# Altium integrated library basic03_inductors.IntLib: 87 symbols
Pins are listed as number, name and electrical type; pins without a type are passive.

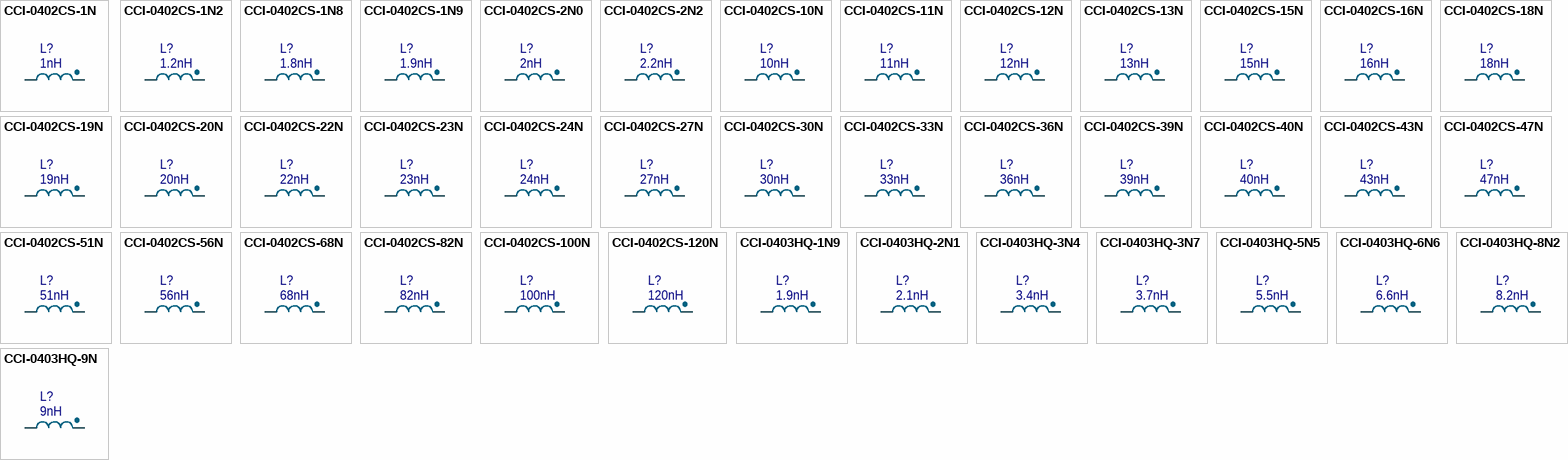
[diagram p0: symbols CCI-0402CS-1N to CCI-0403HQ-9N]

## CCI-0402CS-1N
designator L?, comment 1nH
IND, 1nH, 5%, RF, 1360mA, 0402, PbF; VendorPartNumber: 0402CS-1N0XJL; LocalPartNumber: CCI-0402CS-1N; Vendor: Coilcraft; EngineerName: Shyu Lee (Xu Li); EngineerEmail: shyu.lee@gmail.com; shyu.lee@ettus.com; Value: 1nH; Publisher: MiniLab; Version: 1.0; VersionDate: 01-10-2014
footprint 0402-CCI-CS (Coilcraft 0402CS)
simulation model IND (Ideal Inductor)
pins: 1, 2

## CCI-0402CS-1N2
designator L?, comment 1.2nH
IND, 1.2nH, 5%, RF, 754mA, 0402, PbF; VendorPartNumber: 0402CS-1N2XJL; LocalPartNumber: CCI-0402CS-1N2; Vendor: Coilcraft; EngineerName: Shyu Lee (Xu Li); EngineerEmail: shyu.lee@gmail.com; shyu.lee@ettus.com; Value: 1.2nH; Publisher: MiniLab; Version: 1.0; VersionDate: 01-10-2014
footprint 0402-CCI-CS (Coilcraft 0402CS)
simulation model IND (Ideal Inductor)
pins: 1, 2

## CCI-0402CS-1N8
designator L?, comment 1.8nH
IND, 1.8nH, 5%, RF, 1040mA, 0402, PbF; VendorPartNumber: 0402CS-1N8XJL; LocalPartNumber: CCI-0402CS-1N8; Vendor: Coilcraft; EngineerName: Shyu Lee (Xu Li); EngineerEmail: shyu.lee@gmail.com; shyu.lee@ettus.com; Value: 1.8nH; Publisher: MiniLab; Version: 1.0; VersionDate: 01-10-2014
footprint 0402-CCI-CS (Coilcraft 0402CS)
simulation model IND (Ideal Inductor)
pins: 1, 2

## CCI-0402CS-1N9
designator L?, comment 1.9nH
IND, 1.9nH, 5%, RF, 1040mA, 0402, PbF; VendorPartNumber: 0402CS-1N9XJL; LocalPartNumber: CCI-0402CS-1N9; Vendor: Coilcraft; EngineerName: Shyu Lee (Xu Li); EngineerEmail: shyu.lee@gmail.com; shyu.lee@ettus.com; Value: 1.9nH; Publisher: MiniLab; Version: 1.0; VersionDate: 01-10-2014
footprint 0402-CCI-CS (Coilcraft 0402CS)
simulation model IND (Ideal Inductor)
pins: 1, 2

## CCI-0402CS-2N0
designator L?, comment 2nH
IND, 2.0nH, 5%, RF, 1040mA, 0402, PbF; VendorPartNumber: 0402CS-2N0XJL; LocalPartNumber: CCI-0402CS-2N0; Vendor: Coilcraft; EngineerName: Shyu Lee (Xu Li); EngineerEmail: shyu.lee@gmail.com; shyu.lee@ettus.com; Value: 2nH; Publisher: MiniLab; Version: 1.0; VersionDate: 01-10-2014
footprint 0402-CCI-CS (Coilcraft 0402CS)
simulation model IND (Ideal Inductor)
pins: 1, 2

## CCI-0402CS-2N2
designator L?, comment 2.2nH
IND, 2.2nH, 5%, RF, 960mA, 0402, PbF; VendorPartNumber: 0402CS-2N2XJL; LocalPartNumber: CCI-0402CS-2N2; Vendor: Coilcraft; EngineerName: Shyu Lee (Xu Li); EngineerEmail: shyu.lee@gmail.com; shyu.lee@ettus.com; Value: 2.2nH; Publisher: MiniLab; Version: 1.0; VersionDate: 01-10-2014
footprint 0402-CCI-CS (Coilcraft 0402CS)
simulation model IND (Ideal Inductor)
pins: 1, 2

## CCI-0402CS-10N
designator L?, comment 10nH
IND, 10nH, 5%, RF, 480mA, 0402, PbF; VendorPartNumber: 0402CS-10NXJL; LocalPartNumber: CCI-0402CS-10N; Vendor: Coilcraft; EngineerName: Shyu Lee (Xu Li); EngineerEmail: shyu.lee@gmail.com; shyu.lee@ettus.com; Value: 10nH; Publisher: MiniLab; Version: 1.0; VersionDate: 01-10-2014
footprint 0402-CCI-CS (Coilcraft 0402CS)
simulation model IND (Ideal Inductor)
pins: 1, 2

## CCI-0402CS-11N
designator L?, comment 11nH
IND, 11nH, 5%, RF, 640mA, 0402, PbF; VendorPartNumber: 0402CS-11NXJL; LocalPartNumber: CCI-0402CS-11N; Vendor: Coilcraft; EngineerName: Shyu Lee (Xu Li); EngineerEmail: shyu.lee@gmail.com; shyu.lee@ettus.com; Value: 11nH; Publisher: MiniLab; Version: 1.0; VersionDate: 01-10-2014
footprint 0402-CCI-CS (Coilcraft 0402CS)
simulation model IND (Ideal Inductor)
pins: 1, 2

## CCI-0402CS-12N
designator L?, comment 12nH
IND, 12nH, 5%, RF, 640mA, 0402, PbF; VendorPartNumber: 0402CS-12NXJL; LocalPartNumber: CCI-0402CS-12N; Vendor: Coilcraft; EngineerName: Shyu Lee (Xu Li); EngineerEmail: shyu.lee@gmail.com; shyu.lee@ettus.com; Value: 12nH; Publisher: MiniLab; Version: 1.0; VersionDate: 01-10-2014
footprint 0402-CCI-CS (Coilcraft 0402CS)
simulation model IND (Ideal Inductor)
pins: 1, 2

## CCI-0402CS-13N
designator L?, comment 13nH
IND, 13nH, 5%, RF, 440mA, 0402, PbF; VendorPartNumber: 0402CS-13NXJL; LocalPartNumber: CCI-0402CS-13N; Vendor: Coilcraft; EngineerName: Shyu Lee (Xu Li); EngineerEmail: shyu.lee@gmail.com; shyu.lee@ettus.com; Value: 13nH; Publisher: MiniLab; Version: 1.0; VersionDate: 01-10-2014
footprint 0402-CCI-CS (Coilcraft 0402CS)
simulation model IND (Ideal Inductor)
pins: 1, 2

## CCI-0402CS-15N
designator L?, comment 15nH
IND, 15nH, 5%, RF, 560mA, 0402, PbF; VendorPartNumber: 0402CS-15NXJL; LocalPartNumber: CCI-0402CS-15N; Vendor: Coilcraft; EngineerName: Shyu Lee (Xu Li); EngineerEmail: shyu.lee@gmail.com; shyu.lee@ettus.com; Value: 15nH; Publisher: MiniLab; Version: 1.0; VersionDate: 01-10-2014
footprint 0402-CCI-CS (Coilcraft 0402CS)
simulation model IND (Ideal Inductor)
pins: 1, 2

## CCI-0402CS-16N
designator L?, comment 16nH
IND, 16nH, 5%, RF, 560mA, 0402, PbF; VendorPartNumber: 0402CS-16NXJL; LocalPartNumber: CCI-0402CS-16N; Vendor: Coilcraft; EngineerName: Shyu Lee (Xu Li); EngineerEmail: shyu.lee@gmail.com; shyu.lee@ettus.com; Value: 16nH; Publisher: MiniLab; Version: 1.0; VersionDate: 01-10-2014
footprint 0402-CCI-CS (Coilcraft 0402CS)
simulation model IND (Ideal Inductor)
pins: 1, 2

## CCI-0402CS-18N
designator L?, comment 18nH
IND, 18nH, 5%, RF, 420mA, 0402, PbF; VendorPartNumber: 0402CS-18NXJL; LocalPartNumber: CCI-0402CS-18N; Vendor: Coilcraft; EngineerName: Shyu Lee (Xu Li); EngineerEmail: shyu.lee@gmail.com; shyu.lee@ettus.com; Value: 18nH; Publisher: MiniLab; Version: 1.0; VersionDate: 01-10-2014
footprint 0402-CCI-CS (Coilcraft 0402CS)
simulation model IND (Ideal Inductor)
pins: 1, 2

## CCI-0402CS-19N
designator L?, comment 19nH
IND, 19nH, 5%, RF, 480mA, 0402, PbF; VendorPartNumber: 0402CS-19NXJL; LocalPartNumber: CCI-0402CS-19N; Vendor: Coilcraft; EngineerName: Shyu Lee (Xu Li); EngineerEmail: shyu.lee@gmail.com; shyu.lee@ettus.com; Value: 19nH; Publisher: MiniLab; Version: 1.0; VersionDate: 01-10-2014
footprint 0402-CCI-CS (Coilcraft 0402CS)
simulation model IND (Ideal Inductor)
pins: 1, 2

## CCI-0402CS-20N
designator L?, comment 20nH
IND, 20nH, 5%, RF, 420mA, 0402, PbF; VendorPartNumber: 0402CS-20NXJL; LocalPartNumber: CCI-0402CS-20N; Vendor: Coilcraft; EngineerName: Shyu Lee (Xu Li); EngineerEmail: shyu.lee@gmail.com; shyu.lee@ettus.com; Value: 20nH; Publisher: MiniLab; Version: 1.0; VersionDate: 01-10-2014
footprint 0402-CCI-CS (Coilcraft 0402CS)
simulation model IND (Ideal Inductor)
pins: 1, 2

## CCI-0402CS-22N
designator L?, comment 22nH
IND, 22nH, 5%, RF, 400mA, 0402, PbF; VendorPartNumber: 0402CS-22NXJL; LocalPartNumber: CCI-0402CS-22N; Vendor: Coilcraft; EngineerName: Shyu Lee (Xu Li); EngineerEmail: shyu.lee@gmail.com; shyu.lee@ettus.com; Value: 22nH; Publisher: MiniLab; Version: 1.0; VersionDate: 01-10-2014
footprint 0402-CCI-CS (Coilcraft 0402CS)
simulation model IND (Ideal Inductor)
pins: 1, 2

## CCI-0402CS-23N
designator L?, comment 23nH
IND, 23nH, 5%, RF, 400mA, 0402, PbF; VendorPartNumber: 0402CS-23NXJL; LocalPartNumber: CCI-0402CS-23N; Vendor: Coilcraft; EngineerName: Shyu Lee (Xu Li); EngineerEmail: shyu.lee@gmail.com; shyu.lee@ettus.com; Value: 23nH; Publisher: MiniLab; Version: 1.0; VersionDate: 01-10-2014
footprint 0402-CCI-CS (Coilcraft 0402CS)
simulation model IND (Ideal Inductor)
pins: 1, 2

## CCI-0402CS-24N
designator L?, comment 24nH
IND, 24nH, 5%, RF, 400mA, 0402, PbF; VendorPartNumber: 0402CS-24NXJL; LocalPartNumber: CCI-0402CS-24N; Vendor: Coilcraft; EngineerName: Shyu Lee (Xu Li); EngineerEmail: shyu.lee@gmail.com; shyu.lee@ettus.com; Value: 24nH; Publisher: MiniLab; Version: 1.0; VersionDate: 01-10-2014
footprint 0402-CCI-CS (Coilcraft 0402CS)
simulation model IND (Ideal Inductor)
pins: 1, 2

## CCI-0402CS-27N
designator L?, comment 27nH
IND, 27nH, 5%, RF, 400mA, 0402, PbF; VendorPartNumber: 0402CS-27NXJL; LocalPartNumber: CCI-0402CS-27N; Vendor: Coilcraft; EngineerName: Shyu Lee (Xu Li); EngineerEmail: shyu.lee@gmail.com; shyu.lee@ettus.com; Value: 27nH; Publisher: MiniLab; Version: 1.0; VersionDate: 01-10-2014
footprint 0402-CCI-CS (Coilcraft 0402CS)
simulation model IND (Ideal Inductor)
pins: 1, 2

## CCI-0402CS-30N
designator L?, comment 30nH
IND, 30nH, 5%, RF, 400mA, 0402, PbF; VendorPartNumber: 0402CS-30NXJL; LocalPartNumber: CCI-0402CS-30N; Vendor: Coilcraft; EngineerName: Shyu Lee (Xu Li); EngineerEmail: shyu.lee@gmail.com; shyu.lee@ettus.com; Value: 30nH; Publisher: MiniLab; Version: 1.0; VersionDate: 01-10-2014
footprint 0402-CCI-CS (Coilcraft 0402CS)
simulation model IND (Ideal Inductor)
pins: 1, 2

## CCI-0402CS-33N
designator L?, comment 33nH
IND, 33nH, 5%, RF, 400mA, 0402, PbF; VendorPartNumber: 0402CS-33NXJL; LocalPartNumber: CCI-0402CS-33N; Vendor: Coilcraft; EngineerName: Shyu Lee (Xu Li); EngineerEmail: shyu.lee@gmail.com; shyu.lee@ettus.com; Value: 33nH; Publisher: MiniLab; Version: 1.0; VersionDate: 01-10-2014
footprint 0402-CCI-CS (Coilcraft 0402CS)
simulation model IND (Ideal Inductor)
pins: 1, 2

## CCI-0402CS-36N
designator L?, comment 36nH
IND, 36nH, 5%, RF, 320mA, 0402, PbF; VendorPartNumber: 0402CS-36NXJL; LocalPartNumber: CCI-0402CS-36N; Vendor: Coilcraft; EngineerName: Shyu Lee (Xu Li); EngineerEmail: shyu.lee@gmail.com; shyu.lee@ettus.com; Value: 36nH; Publisher: MiniLab; Version: 1.0; VersionDate: 01-10-2014
footprint 0402-CCI-CS (Coilcraft 0402CS)
simulation model IND (Ideal Inductor)
pins: 1, 2

## CCI-0402CS-39N
designator L?, comment 39nH
IND, 39nH, 5%, RF, 200mA, 0402, PbF; VendorPartNumber: 0402CS-39NXJL; LocalPartNumber: CCI-0402CS-39N; Vendor: Coilcraft; EngineerName: Shyu Lee (Xu Li); EngineerEmail: shyu.lee@gmail.com; shyu.lee@ettus.com; Value: 39nH; Publisher: MiniLab; Version: 1.0; VersionDate: 01-10-2014
footprint 0402-CCI-CS (Coilcraft 0402CS)
simulation model IND (Ideal Inductor)
pins: 1, 2

## CCI-0402CS-40N
designator L?, comment 40nH
IND, 40nH, 5%, RF, 320mA, 0402, PbF; VendorPartNumber: 0402CS-40NXJL; LocalPartNumber: CCI-0402CS-40N; Vendor: Coilcraft; EngineerName: Shyu Lee (Xu Li); EngineerEmail: shyu.lee@gmail.com; shyu.lee@ettus.com; Value: 40nH; Publisher: MiniLab; Version: 1.0; VersionDate: 01-10-2014
footprint 0402-CCI-CS (Coilcraft 0402CS)
simulation model IND (Ideal Inductor)
pins: 1, 2

## CCI-0402CS-43N
designator L?, comment 43nH
IND, 43nH, 5%, RF, 100mA, 0402, PbF; VendorPartNumber: 0402CS-43NXJL; LocalPartNumber: CCI-0402CS-43N; Vendor: Coilcraft; EngineerName: Shyu Lee (Xu Li); EngineerEmail: shyu.lee@gmail.com; shyu.lee@ettus.com; Value: 43nH; Publisher: MiniLab; Version: 1.0; VersionDate: 01-10-2014
footprint 0402-CCI-CS (Coilcraft 0402CS)
simulation model IND (Ideal Inductor)
pins: 1, 2

## CCI-0402CS-47N
designator L?, comment 47nH
IND, 47nH, 5%, RF, 150mA, 0402, PbF; VendorPartNumber: 0402CS-47NXJL; LocalPartNumber: CCI-0402CS-47N; Vendor: Coilcraft; EngineerName: Shyu Lee (Xu Li); EngineerEmail: shyu.lee@gmail.com; shyu.lee@ettus.com; Value: 47nH; Publisher: MiniLab; Version: 1.0; VersionDate: 01-10-2014
footprint 0402-CCI-CS (Coilcraft 0402CS)
simulation model IND (Ideal Inductor)
pins: 1, 2

## CCI-0402CS-51N
designator L?, comment 51nH
IND, 51nH, 5%, RF, 100mA, 0402, PbF; VendorPartNumber: 0402CS-51NXJL; LocalPartNumber: CCI-0402CS-51N; Vendor: Coilcraft; EngineerName: Shyu Lee (Xu Li); EngineerEmail: shyu.lee@gmail.com; shyu.lee@ettus.com; Value: 51nH; Publisher: MiniLab; Version: 1.0; VersionDate: 01-10-2014
footprint 0402-CCI-CS (Coilcraft 0402CS)
simulation model IND (Ideal Inductor)
pins: 1, 2

## CCI-0402CS-56N
designator L?, comment 56nH
IND, 56nH, 5%, RF, 100mA, 0402, PbF; VendorPartNumber: 0402CS-56NXJL; LocalPartNumber: CCI-0402CS-56N; Vendor: Coilcraft; EngineerName: Shyu Lee (Xu Li); EngineerEmail: shyu.lee@gmail.com; shyu.lee@ettus.com; Value: 56nH; Publisher: MiniLab; Version: 1.0; VersionDate: 01-10-2014
footprint 0402-CCI-CS (Coilcraft 0402CS)
simulation model IND (Ideal Inductor)
pins: 1, 2

## CCI-0402CS-68N
designator L?, comment 68nH
IND, 68nH, 5%, RF, 100mA, 0402, PbF; VendorPartNumber: 0402CS-68NXJL; LocalPartNumber: CCI-0402CS-68N; Vendor: Coilcraft; EngineerName: Shyu Lee (Xu Li); EngineerEmail: shyu.lee@gmail.com; shyu.lee@ettus.com; Value: 68nH; Publisher: MiniLab; Version: 1.0; VersionDate: 01-10-2014
footprint 0402-CCI-CS (Coilcraft 0402CS)
simulation model IND (Ideal Inductor)
pins: 1, 2

## CCI-0402CS-82N
designator L?, comment 82nH
IND, 82nH, 5%, RF, 50mA, 0402, PbF; VendorPartNumber: 0402CS-82NXJL; LocalPartNumber: CCI-0402CS-82N; Vendor: Coilcraft; EngineerName: Shyu Lee (Xu Li); EngineerEmail: shyu.lee@gmail.com; shyu.lee@ettus.com; Value: 82nH; Publisher: MiniLab; Version: 1.0; VersionDate: 01-10-2014
footprint 0402-CCI-CS (Coilcraft 0402CS)
simulation model IND (Ideal Inductor)
pins: 1, 2

## CCI-0402CS-100N
designator L?, comment 100nH
IND, 100nH, 5%, RF, 30mA, 0402, PbF; VendorPartNumber: 0402CS-R10XJL; LocalPartNumber: CCI-0402CS-100N; Vendor: Coilcraft; EngineerName: Shyu Lee (Xu Li); EngineerEmail: shyu.lee@gmail.com; shyu.lee@ettus.com; Value: 100nH; Publisher: MiniLab; Version: 1.0; VersionDate: 01-10-2014
footprint 0402-CCI-CS (Coilcraft 0402CS)
simulation model IND (Ideal Inductor)
pins: 1, 2

## CCI-0402CS-120N
designator L?, comment 120nH
IND, 120nH, 5%, RF, 50mA, 0402, PbF; VendorPartNumber: 0402CS-R12XJL; LocalPartNumber: CCI-0402CS-120N; Vendor: Coilcraft; EngineerName: Shyu Lee (Xu Li); EngineerEmail: shyu.lee@gmail.com; shyu.lee@ettus.com; Value: 120nH; Publisher: MiniLab; Version: 1.0; VersionDate: 01-10-2014
footprint 0402-CCI-CS (Coilcraft 0402CS)
simulation model IND (Ideal Inductor)
pins: 1, 2

## CCI-0403HQ-1N9
designator L?, comment 1.9nH
IND, 1.9nH, 5%, RF HiQ, 2200mA, 0403, PbF; VendorPartNumber: 0403HQ-1N9XJL; LocalPartNumber: CCI-0403HQ-1N9; Vendor: Coilcraft; EngineerName: Shyu Lee (Xu Li); EngineerEmail: shyu.lee@gmail.com; shyu.lee@ettus.com; Value: 1.9nH; Publisher: MiniLab; Version: 1.0; VersionDate: 01-10-2014
footprint 0403-CCI-HQ (Coilcraft 0403HQ)
simulation model IND (Ideal Inductor)
pins: 1, 2

## CCI-0403HQ-2N1
designator L?, comment 2.1nH
IND, 2.1nH, 5%, RF HiQ, 1800mA, 0403, PbF; VendorPartNumber: 0403HQ-2N1XJL; LocalPartNumber: CCI-0403HQ-2N1; Vendor: Coilcraft; EngineerName: Shyu Lee (Xu Li); EngineerEmail: shyu.lee@gmail.com; shyu.lee@ettus.com; Value: 2.1nH; Publisher: MiniLab; Version: 1.0; VersionDate: 01-10-2014
footprint 0403-CCI-HQ (Coilcraft 0403HQ)
simulation model IND (Ideal Inductor)
pins: 1, 2

## CCI-0403HQ-3N4
designator L?, comment 3.4nH
IND, 3.4nH, 5%, RF HiQ, 1900mA, 0403, PbF; VendorPartNumber: 0403HQ-3N4XJL; LocalPartNumber: CCI-0403HQ-3N4; Vendor: Coilcraft; EngineerName: Shyu Lee (Xu Li); EngineerEmail: shyu.lee@gmail.com; shyu.lee@ettus.com; Value: 3.4nH; Publisher: MiniLab; Version: 1.0; VersionDate: 01-10-2014
footprint 0403-CCI-HQ (Coilcraft 0403HQ)
simulation model IND (Ideal Inductor)
pins: 1, 2

## CCI-0403HQ-3N7
designator L?, comment 3.7nH
IND, 3.7nH, 5%, RF HiQ, 1800mA, 0403, PbF; VendorPartNumber: 0403HQ-3N7XJL; LocalPartNumber: CCI-0403HQ-3N7; Vendor: Coilcraft; EngineerName: Shyu Lee (Xu Li); EngineerEmail: shyu.lee@gmail.com; shyu.lee@ettus.com; Value: 3.7nH; Publisher: MiniLab; Version: 1.0; VersionDate: 01-10-2014
footprint 0403-CCI-HQ (Coilcraft 0403HQ)
simulation model IND (Ideal Inductor)
pins: 1, 2

## CCI-0403HQ-5N5
designator L?, comment 5.5nH
IND, 5.5nH, 5%, RF HiQ, 1500mA, 0403, PbF; VendorPartNumber: 0403HQ-5N5XJL; LocalPartNumber: CCI-0403HQ-5N5; Vendor: Coilcraft; EngineerName: Shyu Lee (Xu Li); EngineerEmail: shyu.lee@gmail.com; shyu.lee@ettus.com; Value: 5.5nH; Publisher: MiniLab; Version: 1.0; VersionDate: 01-10-2014
footprint 0403-CCI-HQ (Coilcraft 0403HQ)
simulation model IND (Ideal Inductor)
pins: 1, 2

## CCI-0403HQ-6N6
designator L?, comment 6.6nH
IND, 6.6nH, 5%, RF HiQ, 1100mA, 0403, PbF; VendorPartNumber: 0403HQ-6N6XJL; LocalPartNumber: CCI-0403HQ-6N6; Vendor: Coilcraft; EngineerName: Shyu Lee (Xu Li); EngineerEmail: shyu.lee@gmail.com; shyu.lee@ettus.com; Value: 6.6nH; Publisher: MiniLab; Version: 1.0; VersionDate: 01-10-2014
footprint 0403-CCI-HQ (Coilcraft 0403HQ)
simulation model IND (Ideal Inductor)
pins: 1, 2

## CCI-0403HQ-8N2
designator L?, comment 8.2nH
IND, 8.2nH, 5%, RF HiQ, 1200mA, 0403, PbF; VendorPartNumber: 0403HQ-8N2XJL; LocalPartNumber: CCI-0403HQ-8N2; Vendor: Coilcraft; EngineerName: Shyu Lee (Xu Li); EngineerEmail: shyu.lee@gmail.com; shyu.lee@ettus.com; Value: 8.2nH; Publisher: MiniLab; Version: 1.0; VersionDate: 01-10-2014
footprint 0403-CCI-HQ (Coilcraft 0403HQ)
simulation model IND (Ideal Inductor)
pins: 1, 2

## CCI-0403HQ-9N
designator L?, comment 9nH
IND, 9nH, 5%, RF HiQ, 1000mA, 0403, PbF; VendorPartNumber: 0403HQ-9N0XJL; LocalPartNumber: CCI-0403HQ-9N; Vendor: Coilcraft; EngineerName: Shyu Lee (Xu Li); EngineerEmail: shyu.lee@gmail.com; shyu.lee@ettus.com; Value: 9nH; Publisher: MiniLab; Version: 1.0; VersionDate: 01-10-2014
footprint 0403-CCI-HQ (Coilcraft 0403HQ)
simulation model IND (Ideal Inductor)
pins: 1, 2

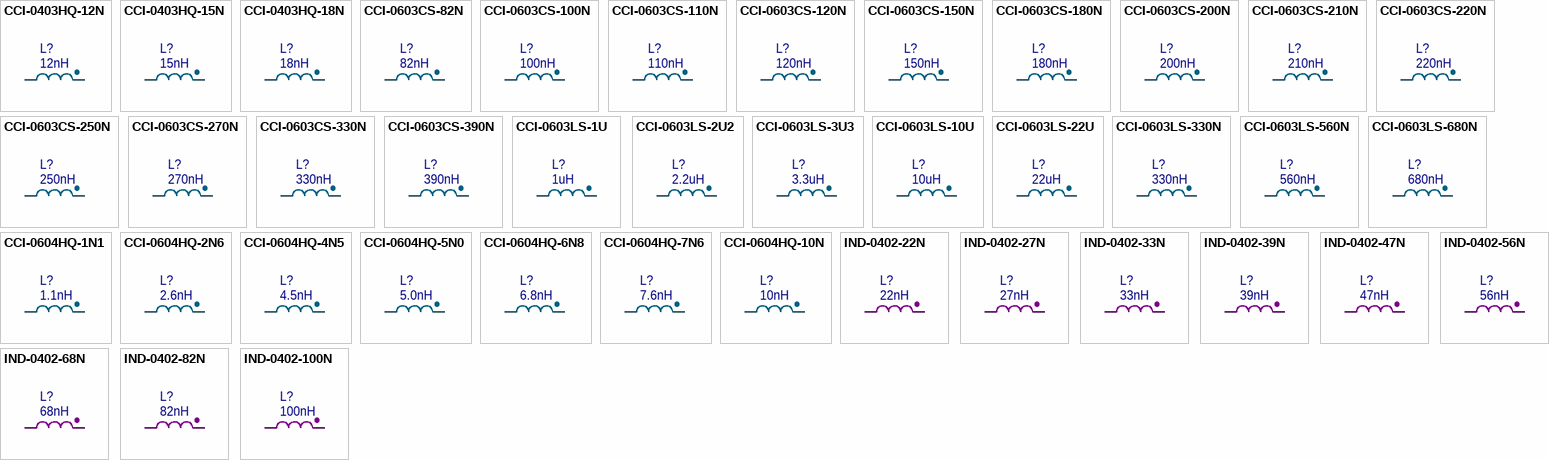
[diagram p1: symbols CCI-0403HQ-12N to IND-0402-100N]

## CCI-0403HQ-12N
designator L?, comment 12nH
IND, 12nH, 5%, RF HiQ, 800mA, 0403, PbF; VendorPartNumber: 0403HQ-12NXJL; LocalPartNumber: CCI-0403HQ-12N; Vendor: Coilcraft; EngineerName: Shyu Lee (Xu Li); EngineerEmail: shyu.lee@gmail.com; shyu.lee@ettus.com; Value: 12nH; Publisher: MiniLab; Version: 1.0; VersionDate: 01-10-2014
footprint 0403-CCI-HQ (Coilcraft 0403HQ)
simulation model IND (Ideal Inductor)
pins: 1, 2

## CCI-0403HQ-15N
designator L?, comment 15nH
IND, 15nH, 5%, RF HiQ, 500mA, 0403, PbF; VendorPartNumber: 0403HQ-15NXJL; LocalPartNumber: CCI-0403HQ-15N; Vendor: Coilcraft; EngineerName: Shyu Lee (Xu Li); EngineerEmail: shyu.lee@gmail.com; shyu.lee@ettus.com; Value: 15nH; Publisher: MiniLab; Version: 1.0; VersionDate: 01-10-2014
footprint 0403-CCI-HQ (Coilcraft 0403HQ)
simulation model IND (Ideal Inductor)
pins: 1, 2

## CCI-0403HQ-18N
designator L?, comment 18nH
IND, 18nH, 5%, RF HiQ, 500mA, 0403, PbF; VendorPartNumber: 0403HQ-18NXJL; LocalPartNumber: CCI-0403HQ-18N; Vendor: Coilcraft; EngineerName: Shyu Lee (Xu Li); EngineerEmail: shyu.lee@gmail.com; shyu.lee@ettus.com; Value: 18nH; Publisher: MiniLab; Version: 1.0; VersionDate: 01-10-2014
footprint 0403-CCI-HQ (Coilcraft 0403HQ)
simulation model IND (Ideal Inductor)
pins: 1, 2

## CCI-0603CS-82N
designator L?, comment 82nH
IND, 82nH, 5%, RF, 400mA, 0603, PbF; VendorPartNumber: 0603CS-82NXJL; LocalPartNumber: CCI-0603CS-82N; Vendor: Coilcraft; EngineerName: Shyu Lee (Xu Li); EngineerEmail: shyu.lee@gmail.com; shyu.lee@ettus.com; Value: 82nH; Publisher: MiniLab; Version: 1.0; VersionDate: 01-10-2014
footprint 0603-CCI-CS (Coilcraft 0603CS)
simulation model IND (Ideal Inductor)
pins: 1, 2

## CCI-0603CS-100N
designator L?, comment 100nH
IND, 100nH, 5%, RF, 400mA, 0603, PbF; VendorPartNumber: 0603CS-R10XJL; LocalPartNumber: CCI-0603CS-100N; Vendor: Coilcraft; EngineerName: Shyu Lee (Xu Li); EngineerEmail: shyu.lee@gmail.com; shyu.lee@ettus.com; Value: 100nH; Publisher: MiniLab; Version: 1.0; VersionDate: 01-10-2014
footprint 0603-CCI-CS (Coilcraft 0603CS)
simulation model IND (Ideal Inductor)
pins: 1, 2

## CCI-0603CS-110N
designator L?, comment 110nH
IND, 110nH, 5%, RF, 300mA, 0603, PbF; VendorPartNumber: 0603CS-R11XJL; LocalPartNumber: CCI-0603CS-110N; Vendor: Coilcraft; EngineerName: Shyu Lee (Xu Li); EngineerEmail: shyu.lee@gmail.com; shyu.lee@ettus.com; Value: 110nH; Publisher: MiniLab; Version: 1.0; VersionDate: 01-10-2014
footprint 0603-CCI-CS (Coilcraft 0603CS)
simulation model IND (Ideal Inductor)
pins: 1, 2

## CCI-0603CS-120N
designator L?, comment 120nH
IND, 120nH, 5%, RF, 300mA, 0603, PbF; VendorPartNumber: 0603CS-R12XJL; LocalPartNumber: CCI-0603CS-120N; Vendor: Coilcraft; EngineerName: Shyu Lee (Xu Li); EngineerEmail: shyu.lee@gmail.com; shyu.lee@ettus.com; Value: 120nH; Publisher: MiniLab; Version: 1.0; VersionDate: 01-10-2014
footprint 0603-CCI-CS (Coilcraft 0603CS)
simulation model IND (Ideal Inductor)
pins: 1, 2

## CCI-0603CS-150N
designator L?, comment 150nH
IND, 150nH, 5%, RF, 280mA, 0603, PbF; VendorPartNumber: 0603CS-R15XJL; LocalPartNumber: CCI-0603CS-150N; Vendor: Coilcraft; EngineerName: Shyu Lee (Xu Li); EngineerEmail: shyu.lee@gmail.com; shyu.lee@ettus.com; Value: 150nH; Publisher: MiniLab; Version: 1.0; VersionDate: 01-10-2014
footprint 0603-CCI-CS (Coilcraft 0603CS)
simulation model IND (Ideal Inductor)
pins: 1, 2

## CCI-0603CS-180N
designator L?, comment 180nH
IND, 180nH, 5%, RF, 240mA, 0603, PbF; VendorPartNumber: 0603CS-R18XJL; LocalPartNumber: CCI-0603CS-180N; Vendor: Coilcraft; EngineerName: Shyu Lee (Xu Li); EngineerEmail: shyu.lee@gmail.com; shyu.lee@ettus.com; Value: 180nH; Publisher: MiniLab; Version: 1.0; VersionDate: 01-10-2014
footprint 0603-CCI-CS (Coilcraft 0603CS)
simulation model IND (Ideal Inductor)
pins: 1, 2

## CCI-0603CS-200N
designator L?, comment 200nH
IND, 200nH, 5%, RF, 200mA, 0603, PbF; VendorPartNumber: 0603CS-R20XJL; LocalPartNumber: CCI-0603CS-200N; Vendor: Coilcraft; EngineerName: Shyu Lee (Xu Li); EngineerEmail: shyu.lee@gmail.com; shyu.lee@ettus.com; Value: 200nH; Publisher: MiniLab; Version: 1.0; VersionDate: 01-10-2014
footprint 0603-CCI-CS (Coilcraft 0603CS)
simulation model IND (Ideal Inductor)
pins: 1, 2

## CCI-0603CS-210N
designator L?, comment 210nH
IND, 210nH, 5%, RF, 200mA, 0603, PbF; VendorPartNumber: 0603CS-R21XJL; LocalPartNumber: CCI-0603CS-210N; Vendor: Coilcraft; EngineerName: Shyu Lee (Xu Li); EngineerEmail: shyu.lee@gmail.com; shyu.lee@ettus.com; Value: 210nH; Publisher: MiniLab; Version: 1.0; VersionDate: 01-10-2014
footprint 0603-CCI-CS (Coilcraft 0603CS)
simulation model IND (Ideal Inductor)
pins: 1, 2

## CCI-0603CS-220N
designator L?, comment 220nH
IND, 220nH, 5%, RF, 200mA, 0603, PbF; VendorPartNumber: 0603CS-R22XJL; LocalPartNumber: CCI-0603CS-220N; Vendor: Coilcraft; EngineerName: Shyu Lee (Xu Li); EngineerEmail: shyu.lee@gmail.com; shyu.lee@ettus.com; Value: 220nH; Publisher: MiniLab; Version: 1.0; VersionDate: 01-10-2014
footprint 0603-CCI-CS (Coilcraft 0603CS)
simulation model IND (Ideal Inductor)
pins: 1, 2

## CCI-0603CS-250N
designator L?, comment 250nH
IND, 250nH, 5%, RF, 120mA, 0603, PbF; VendorPartNumber: 0603CS-R25XJL; LocalPartNumber: CCI-0603CS-250N; Vendor: Coilcraft; EngineerName: Shyu Lee (Xu Li); EngineerEmail: shyu.lee@gmail.com; shyu.lee@ettus.com; Value: 250nH; Publisher: MiniLab; Version: 1.0; VersionDate: 01-10-2014
footprint 0603-CCI-CS (Coilcraft 0603CS)
simulation model IND (Ideal Inductor)
pins: 1, 2

## CCI-0603CS-270N
designator L?, comment 270nH
IND, 270nH, 5%, RF, 170mA, 0603, PbF; VendorPartNumber: 0603CS-R27XJL; LocalPartNumber: CCI-0603CS-270N; Vendor: Coilcraft; EngineerName: Shyu Lee (Xu Li); EngineerEmail: shyu.lee@gmail.com; shyu.lee@ettus.com; Value: 270nH; Publisher: MiniLab; Version: 1.0; VersionDate: 01-10-2014
footprint 0603-CCI-CS (Coilcraft 0603CS)
simulation model IND (Ideal Inductor)
pins: 1, 2

## CCI-0603CS-330N
designator L?, comment 330nH
IND, 330nH, 5%, RF, 100mA, 0603, PbF; VendorPartNumber: 0603CS-R33XJL; LocalPartNumber: CCI-0603CS-330N; Vendor: Coilcraft; EngineerName: Shyu Lee (Xu Li); EngineerEmail: shyu.lee@gmail.com; shyu.lee@ettus.com; Value: 330nH; Publisher: MiniLab; Version: 1.0; VersionDate: 01-10-2014
footprint 0603-CCI-CS (Coilcraft 0603CS)
simulation model IND (Ideal Inductor)
pins: 1, 2

## CCI-0603CS-390N
designator L?, comment 390nH
IND, 390nH, 5%, RF, 100mA, 0603, PbF; VendorPartNumber: 0603CS-R39XJL; LocalPartNumber: CCI-0603CS-390N; Vendor: Coilcraft; EngineerName: Shyu Lee (Xu Li); EngineerEmail: shyu.lee@gmail.com; shyu.lee@ettus.com; Value: 390nH; Publisher: MiniLab; Version: 1.0; VersionDate: 01-10-2014
footprint 0603-CCI-CS (Coilcraft 0603CS)
simulation model IND (Ideal Inductor)
pins: 1, 2

## CCI-0603LS-1U
designator L?, comment 1uH
IND, 1uH, 5%, RF Core, 400mA, 0603, PbF; VendorPartNumber: 0603LS-102XJL; LocalPartNumber: CCI-0603LS-1U; Vendor: Coilcraft; EngineerName: Shyu Lee (Xu Li); EngineerEmail: shyu.lee@gmail.com; shyu.lee@ettus.com; Value: 1uH; Publisher: MiniLab; Version: 1.0; VersionDate: 01-10-2014
footprint 0603-CCI-LS (Coilcraft 0603LS)
simulation model IND (Ideal Inductor)
pins: 1, 2

## CCI-0603LS-2U2
designator L?, comment 2.2uH
IND, 2.2uH, 5%, RF Core, 320mA, 0603, PbF; VendorPartNumber: 0603LS-222XJL; LocalPartNumber: CCI-0603LS-2U2; Vendor: Coilcraft; EngineerName: Shyu Lee (Xu Li); EngineerEmail: shyu.lee@gmail.com; shyu.lee@ettus.com; Value: 2.2uH; Publisher: MiniLab; Version: 1.0; VersionDate: 01-10-2014
footprint 0603-CCI-LS (Coilcraft 0603LS)
simulation model IND (Ideal Inductor)
pins: 1, 2

## CCI-0603LS-3U3
designator L?, comment 3.3uH
IND, 3.3uH, 5%, RF Core, 280mA, 0603, PbF; VendorPartNumber: 0603LS-332XJL; LocalPartNumber: CCI-0603LS-3U3; Vendor: Coilcraft; EngineerName: Shyu Lee (Xu Li); EngineerEmail: shyu.lee@gmail.com; shyu.lee@ettus.com; Value: 3.3uH; Publisher: MiniLab; Version: 1.0; VersionDate: 01-10-2014
footprint 0603-CCI-LS (Coilcraft 0603LS)
simulation model IND (Ideal Inductor)
pins: 1, 2

## CCI-0603LS-10U
designator L?, comment 10uH
IND, 10uH, 5%, RF Core, 180mA, 0603, PbF; VendorPartNumber: 0603LS-103XJL; LocalPartNumber: CCI-0603LS-10U; Vendor: Coilcraft; EngineerName: Shyu Lee (Xu Li); EngineerEmail: shyu.lee@gmail.com; shyu.lee@ettus.com; Value: 10uH; Publisher: MiniLab; Version: 1.0; VersionDate: 01-10-2014
footprint 0603-CCI-LS (Coilcraft 0603LS)
simulation model IND (Ideal Inductor)
pins: 1, 2

## CCI-0603LS-22U
designator L?, comment 22uH
IND, 22uH, 5%, RF Core, 130mA, 0603, PbF; VendorPartNumber: 0603LS-223XJL; LocalPartNumber: CCI-0603LS-22U; Vendor: Coilcraft; EngineerName: Shyu Lee (Xu Li); EngineerEmail: shyu.lee@gmail.com; shyu.lee@ettus.com; Value: 22uH; Publisher: MiniLab; Version: 1.0; VersionDate: 01-10-2014
footprint 0603-CCI-LS (Coilcraft 0603LS)
simulation model IND (Ideal Inductor)
pins: 1, 2

## CCI-0603LS-330N
designator L?, comment 330nH
IND, 330nH, 5%, RF Core, 560mA, 0603, PbF; VendorPartNumber: 0603LS-331XJL; LocalPartNumber: CCI-0603LS-330N; Vendor: Coilcraft; EngineerName: Shyu Lee (Xu Li); EngineerEmail: shyu.lee@gmail.com; shyu.lee@ettus.com; Value: 330nH; Publisher: MiniLab; Version: 1.0; VersionDate: 01-10-2014
footprint 0603-CCI-LS (Coilcraft 0603LS)
simulation model IND (Ideal Inductor)
pins: 1, 2

## CCI-0603LS-560N
designator L?, comment 560nH
IND, 560nH, 5%, RF Core, 550mA, 0603, PbF; VendorPartNumber: 0603LS-561XJL; LocalPartNumber: CCI-0603LS-560N; Vendor: Coilcraft; EngineerName: Shyu Lee (Xu Li); EngineerEmail: shyu.lee@gmail.com; shyu.lee@ettus.com; Value: 560nH; Publisher: MiniLab; Version: 1.0; VersionDate: 01-10-2014
footprint 0603-CCI-LS (Coilcraft 0603LS)
simulation model IND (Ideal Inductor)
pins: 1, 2

## CCI-0603LS-680N
designator L?, comment 680nH
IND, 680nH, 5%, RF Core, 470mA, 0603, PbF; VendorPartNumber: 0603LS-681XJL; LocalPartNumber: CCI-0603LS-680N; Vendor: Coilcraft; EngineerName: Shyu Lee (Xu Li); EngineerEmail: shyu.lee@gmail.com; shyu.lee@ettus.com; Value: 680nH; Publisher: MiniLab; Version: 1.0; VersionDate: 01-10-2014
footprint 0603-CCI-LS (Coilcraft 0603LS)
simulation model IND (Ideal Inductor)
pins: 1, 2

## CCI-0604HQ-1N1
designator L?, comment 1.1nH
IND, 1.1nH, 5%, RF HiQ, 3000mA, 0604, PbF; VendorPartNumber: 0604HQ-1N1XJL; LocalPartNumber: CCI-0604HQ-1N1; Vendor: Coilcraft; EngineerName: Shyu Lee (Xu Li); EngineerEmail: shyu.lee@gmail.com; shyu.lee@ettus.com; Value: 1.1nH; Publisher: MiniLab; Version: 1.0; VersionDate: 01-10-2014
footprint 0604-CCI-HQ (Coilcraft 0604HQ)
simulation model IND (Ideal Inductor)
pins: 1, 2

## CCI-0604HQ-2N6
designator L?, comment 2.6nH
IND, 2.6nH, 5%, RF HiQ, 2000mA, 0604, PbF; VendorPartNumber: 0604HQ-2N6XJL; LocalPartNumber: CCI-0604HQ-2N6; Vendor: Coilcraft; EngineerName: Shyu Lee (Xu Li); EngineerEmail: shyu.lee@gmail.com; shyu.lee@ettus.com; Value: 2.6nH; Publisher: MiniLab; Version: 1.0; VersionDate: 01-10-2014
footprint 0604-CCI-HQ (Coilcraft 0604HQ)
simulation model IND (Ideal Inductor)
pins: 1, 2

## CCI-0604HQ-4N5
designator L?, comment 4.5nH
IND, 4.5nH, 5%, RF HiQ, 1800mA, 0604, PbF; VendorPartNumber: 0604HQ-4N5XJL; LocalPartNumber: CCI-0604HQ-4N5; Vendor: Coilcraft; EngineerName: Shyu Lee (Xu Li); EngineerEmail: shyu.lee@gmail.com; shyu.lee@ettus.com; Value: 4.5nH; Publisher: MiniLab; Version: 1.0; VersionDate: 01-10-2014
footprint 0604-CCI-HQ (Coilcraft 0604HQ)
simulation model IND (Ideal Inductor)
pins: 1, 2

## CCI-0604HQ-5N0
designator L?, comment 5.0nH
IND, 5.0nH, 5%, RF HiQ, 1600mA, 0604, PbF; VendorPartNumber: 0604HQ-5N0XJL; LocalPartNumber: CCI-0604HQ-5N0; Vendor: Coilcraft; EngineerName: Shyu Lee (Xu Li); EngineerEmail: shyu.lee@gmail.com; shyu.lee@ettus.com; Value: 5.0nH; Publisher: MiniLab; Version: 1.0; VersionDate: 01-10-2014
footprint 0604-CCI-HQ (Coilcraft 0604HQ)
simulation model IND (Ideal Inductor)
pins: 1, 2

## CCI-0604HQ-6N8
designator L?, comment 6.8nH
IND, 6.8nH, 5%, RF HiQ, 1800mA, 0604, PbF; VendorPartNumber: 0604HQ-6N8XJL; LocalPartNumber: CCI-0604HQ-6N8; Vendor: Coilcraft; EngineerName: Shyu Lee (Xu Li); EngineerEmail: shyu.lee@gmail.com; shyu.lee@ettus.com; Value: 6.8nH; Publisher: MiniLab; Version: 1.0; VersionDate: 01-10-2014
footprint 0604-CCI-HQ (Coilcraft 0604HQ)
simulation model IND (Ideal Inductor)
pins: 1, 2

## CCI-0604HQ-7N6
designator L?, comment 7.6nH
IND, 7.6nH, 5%, RF HiQ, 1500mA, 0604, PbF; VendorPartNumber: 0604HQ-7N6XJL; LocalPartNumber: CCI-0604HQ-7N6; Vendor: Coilcraft; EngineerName: Shyu Lee (Xu Li); EngineerEmail: shyu.lee@gmail.com; shyu.lee@ettus.com; Value: 7.6nH; Publisher: MiniLab; Version: 1.0; VersionDate: 01-10-2014
footprint 0604-CCI-HQ (Coilcraft 0604HQ)
simulation model IND (Ideal Inductor)
pins: 1, 2

## CCI-0604HQ-10N
designator L?, comment 10nH
IND, 10nH, 5%, RF HiQ, 1500mA, 0604, PbF; VendorPartNumber: 0604HQ-10NXJL; LocalPartNumber: CCI-0604HQ-10N; Vendor: Coilcraft; EngineerName: Shyu Lee (Xu Li); EngineerEmail: shyu.lee@gmail.com; shyu.lee@ettus.com; Value: 10nH; Publisher: MiniLab; Version: 1.0; VersionDate: 01-10-2014
footprint 0604-CCI-HQ (Coilcraft 0604HQ)
simulation model IND (Ideal Inductor)
pins: 1, 2

## IND-0402-22N
designator L?, comment 22nH
IND, 22nH, 5%, 300mA, 0402, PbF; VendorPartNumber: LQG15HN22NJ02; LocalPartNumber: IND-0402-22N; Vendor: Murata; EngineerName: Shyu Lee (Xu Li); EngineerEmail: shyu.lee@gmail.com; shyu.lee@ettus.com; Value: 22nH; Publisher: MiniLab; Version: 1.0; VersionDate: 01-10-2014
footprint 0402-IND (Inductor, 0402, General Multilayer)
simulation model IND (Ideal Inductor)
pins: 1, 2

## IND-0402-27N
designator L?, comment 27nH
IND, 27nH, 5%, 300mA, 0402, PbF; VendorPartNumber: LQG15HN27NJ02; LocalPartNumber: IND-0402-27N; Vendor: Murata; EngineerName: Shyu Lee (Xu Li); EngineerEmail: shyu.lee@gmail.com; shyu.lee@ettus.com; Value: 27nH; Publisher: MiniLab; Version: 1.0; VersionDate: 01-10-2014
footprint 0402-IND (Inductor, 0402, General Multilayer)
simulation model IND (Ideal Inductor)
pins: 1, 2

## IND-0402-33N
designator L?, comment 33nH
IND, 33nH, 5%, 200mA, 0402, PbF; VendorPartNumber: LQG15HN33NJ02; LocalPartNumber: IND-0402-33N; Vendor: Murata; EngineerName: Shyu Lee (Xu Li); EngineerEmail: shyu.lee@gmail.com; shyu.lee@ettus.com; Value: 33nH; Publisher: MiniLab; Version: 1.0; VersionDate: 01-10-2014
footprint 0402-IND (Inductor, 0402, General Multilayer)
simulation model IND (Ideal Inductor)
pins: 1, 2

## IND-0402-39N
designator L?, comment 39nH
IND, 39nH, 5%, 200mA, 0402, PbF; VendorPartNumber: LQG15HN39NJ02; LocalPartNumber: IND-0402-39N; Vendor: Murata; EngineerName: Shyu Lee (Xu Li); EngineerEmail: shyu.lee@gmail.com; shyu.lee@ettus.com; Value: 39nH; Publisher: MiniLab; Version: 1.0; VersionDate: 01-10-2014
footprint 0402-IND (Inductor, 0402, General Multilayer)
simulation model IND (Ideal Inductor)
pins: 1, 2

## IND-0402-47N
designator L?, comment 47nH
IND, 47nH, 5%, 200mA, 0402, PbF; VendorPartNumber: LQG15HN47NJ02; LocalPartNumber: IND-0402-47N; Vendor: Murata; EngineerName: Shyu Lee (Xu Li); EngineerEmail: shyu.lee@gmail.com; shyu.lee@ettus.com; Value: 47nH; Publisher: MiniLab; Version: 1.0; VersionDate: 01-10-2014
footprint 0402-IND (Inductor, 0402, General Multilayer)
simulation model IND (Ideal Inductor)
pins: 1, 2

## IND-0402-56N
designator L?, comment 56nH
IND, 56nH, 5%, 200mA, 0402, PbF; VendorPartNumber: LQG15HN56NJ02; LocalPartNumber: IND-0402-56N; Vendor: Murata; EngineerName: Shyu Lee (Xu Li); EngineerEmail: shyu.lee@gmail.com; shyu.lee@ettus.com; Value: 56nH; Publisher: MiniLab; Version: 1.0; VersionDate: 01-10-2014
footprint 0402-IND (Inductor, 0402, General Multilayer)
simulation model IND (Ideal Inductor)
pins: 1, 2

## IND-0402-68N
designator L?, comment 68nH
IND, 68nH, 5%, 180mA, 0402, PbF; VendorPartNumber: LQG15HN68NJ02; LocalPartNumber: IND-0402-68N; Vendor: Murata; EngineerName: Shyu Lee (Xu Li); EngineerEmail: shyu.lee@gmail.com; shyu.lee@ettus.com; Value: 68nH; Publisher: MiniLab; Version: 1.0; VersionDate: 01-10-2014
footprint 0402-IND (Inductor, 0402, General Multilayer)
simulation model IND (Ideal Inductor)
pins: 1, 2

## IND-0402-82N
designator L?, comment 82nH
IND, 82nH, 5%, 150mA, 0402, PbF; VendorPartNumber: LQG15HN82NJ02; LocalPartNumber: IND-0402-82N; Vendor: Murata; EngineerName: Shyu Lee (Xu Li); EngineerEmail: shyu.lee@gmail.com; shyu.lee@ettus.com; Value: 82nH; Publisher: MiniLab; Version: 1.0; VersionDate: 01-10-2014
footprint 0402-IND (Inductor, 0402, General Multilayer)
simulation model IND (Ideal Inductor)
pins: 1, 2

## IND-0402-100N
designator L?, comment 100nH
IND, 100nH, 5%, 150mA, 0402, PbF; VendorPartNumber: LQG15HNR10J02; LocalPartNumber: IND-0402-100N; Vendor: Murata; EngineerName: Shyu Lee (Xu Li); EngineerEmail: shyu.lee@gmail.com; shyu.lee@ettus.com; Value: 100nH; Publisher: MiniLab; Version: 1.0; VersionDate: 01-10-2014
footprint 0402-IND (Inductor, 0402, General Multilayer)
simulation model IND (Ideal Inductor)
pins: 1, 2

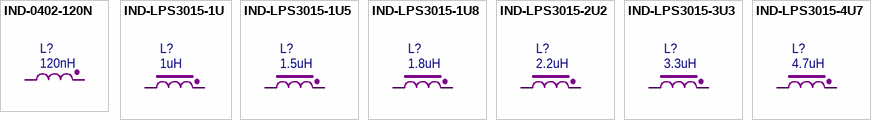
[diagram p2: symbols IND-0402-120N to IND-LPS3015-4U7]

## IND-0402-120N
designator L?, comment 120nH
IND, 120nH, 5%, 150mA, 0402, PbF; VendorPartNumber: LQG15HNR12J02; LocalPartNumber: IND-0402-120N; Vendor: Murata; EngineerName: Shyu Lee (Xu Li); EngineerEmail: shyu.lee@gmail.com; shyu.lee@ettus.com; Value: 120nH; Publisher: MiniLab; Version: 1.0; VersionDate: 01-10-2014
footprint 0402-IND (Inductor, 0402, General Multilayer)
simulation model IND (Ideal Inductor)
pins: 1, 2

## IND-LPS3015-1U
designator L?, comment 1uH
IND, 1uH, 20%, Power, 1400mA, 3 x 3 x 1.5mm, PbF; VendorPartNumber: LPS3015-102MLC; LocalPartNumber: IND-303015-1U; Vendor: Coilcraft; EngineerName: Shyu Lee (Xu Li); EngineerEmail: shyu.lee@gmail.com; shyu.lee@ettus.com; Value: 1uH; Publisher: MiniLab; Version: 1.0; VersionDate: 01-10-2014
footprint P-LPS3015 (Coilcraft LPS3015 Series)
simulation model IND (Ideal Inductor)
pins: 1, 2

## IND-LPS3015-1U5
designator L?, comment 1.5uH
IND, 1.5uH, 20%, Power, 1300mA, 3 x 3 x 1.5mm, PbF; VendorPartNumber: LPS3015-152MLC; LocalPartNumber: IND-P303015-1U5; Vendor: Coilcraft; EngineerName: Shyu Lee (Xu Li); EngineerEmail: shyu.lee@gmail.com; shyu.lee@ettus.com; Value: 1.5uH; Publisher: MiniLab; Version: 1.0; VersionDate: 01-10-2014
footprint P-LPS3015 (Coilcraft LPS3015 Series)
simulation model IND (Ideal Inductor)
pins: 1, 2

## IND-LPS3015-1U8
designator L?, comment 1.8uH
IND, 1.8uH, 20%, Power, 1100mA, 3 x 3 x 1.5mm, PbF; VendorPartNumber: LPS3015-182MLC; LocalPartNumber: IND-P303015-1U8; Vendor: Coilcraft; EngineerName: Shyu Lee (Xu Li); EngineerEmail: shyu.lee@gmail.com; shyu.lee@ettus.com; Value: 1.8uH; Publisher: MiniLab; Version: 1.0; VersionDate: 01-10-2014
footprint P-LPS3015 (Coilcraft LPS3015 Series)
simulation model IND (Ideal Inductor)
pins: 1, 2

## IND-LPS3015-2U2
designator L?, comment 2.2uH
IND, 2.2uH, 20%, Power, 1100mA, 3 x 3 x 1.5mm, PbF; VendorPartNumber: LPS3015-222MLC; LocalPartNumber: IND-P303015-2U2; Vendor: Coilcraft; EngineerName: Shyu Lee (Xu Li); EngineerEmail: shyu.lee@gmail.com; shyu.lee@ettus.com; Value: 2.2uH; Publisher: MiniLab; Version: 1.0; VersionDate: 01-10-2014
footprint P-LPS3015 (Coilcraft LPS3015 Series)
simulation model IND (Ideal Inductor)
pins: 1, 2

## IND-LPS3015-3U3
designator L?, comment 3.3uH
IND, 3.3uH, 20%, Power, 1000mA, 3 x 3 x 1.5mm, PbF; VendorPartNumber: LPS3015-332MLC; LocalPartNumber: IND-P303015-3U3; Vendor: Coilcraft; EngineerName: Shyu Lee (Xu Li); EngineerEmail: shyu.lee@gmail.com; shyu.lee@ettus.com; Value: 3.3uH; Publisher: MiniLab; Version: 1.0; VersionDate: 01-10-2014
footprint P-LPS3015 (Coilcraft LPS3015 Series)
simulation model IND (Ideal Inductor)
pins: 1, 2

## IND-LPS3015-4U7
designator L?, comment 4.7uH
IND, 4.7uH, 20%, Power, 900mA, 3 x 3 x 1.5mm, PbF; VendorPartNumber: LPS3015-472MLC; LocalPartNumber: IND-P303015-4U7; Vendor: Coilcraft; EngineerName: Shyu Lee (Xu Li); EngineerEmail: shyu.lee@gmail.com; shyu.lee@ettus.com; Value: 4.7uH; Publisher: MiniLab; Version: 1.0; VersionDate: 01-10-2014
footprint P-LPS3015 (Coilcraft LPS3015 Series)
simulation model IND (Ideal Inductor)
pins: 1, 2